# EAGLE library part LTC3550-1 (library PowerProducts)
Dual Input USB/AC Adapter Li-Ion Battery Charger with 600mA Buck Converter
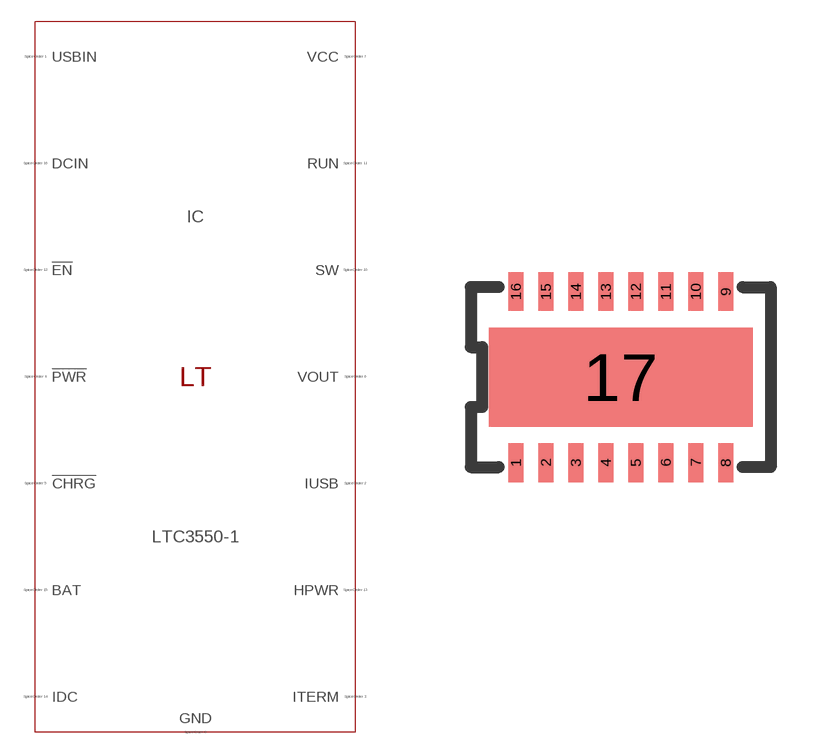
[diagram p245: symbol with the pads of DFN16(DHC); footprint DFN16(DHC)]

Designator prefix IC

## LTC3550-1 (SPICEMODEL: LTC3550-1.sub; SPICEPREFIX: X; VALUE2: LTC3550-1)  [DFN16(DHC)]
1  USBIN  pas
2  IUSB  pas
3  ITERM  pas
4  !PWR  pas
5  !CHRG  pas
6  VOUT  pas
7  VCC  pas
8  GND  pas
9  GND  pas
10  SW  pas
11  RUN  pas
12  !EN  pas
13  HPWR  pas
14  IDC  pas
15  BAT  pas
16  DCIN  pas
17  GND  pas

## Footprint DFN16(DHC) (pad centres in mm)
Package generated from: DFN16(DHC).asc (!PADS-POWERPCB-V5.0-BASIC! DESIGN DATABASE ASCII FILE 1.0) with :import-pads-powerpcb-v5.ulp Version 1.0.1 at 04.10.2012 14:11:17
smd 0.375 x 0.975: 1 -2.625,-2.138; 2 -1.875,-2.138; 3 -1.125,-2.138; 4 -0.375,-2.138; 5 0.375,-2.138; 6 1.125,-2.138; 7 1.875,-2.138; 8 2.625,-2.138; 9 2.625,2.138; 10 1.875,2.138; 11 1.125,2.138; 12 0.375,2.138; 13 -0.375,2.138; 14 -1.125,2.138; 15 -1.875,2.138; 16 -2.625,2.138
smd 6.6 x 2.475: 17 0,0